# Altium schematic symbol library 开关二极管.SchLib: 1 symbol
Pins are listed as number, name and electrical type; pins without a type are passive.

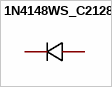
[diagram p0: symbol 1N4148WS_C2128]

## 1N4148WS_C2128
designator D??  (value not drawn)
Manufacturer: CJ(江苏长电/长晶); Symbol: 1N4148WS T4; Add into BOM: yes; Diode Configuration: 独立式; Forward Voltage (Vf@If): 1.25V@150mA; Reverse Voltage (Vr): 100V; Average Rectified Current (Io): 150mA; Power Dissipation: 200mW; Reverse Leakage Current: 1uA@75V; Reverse Recovery Time (trr): 4ns; Name: 1N4148WS; Device: 1N4148WS_C2128; LCSC Part Name: 电压:100V 电流:150mA; Supplier Part: C2128; Manufacturer Part: 1N4148WS; Supplier Footprint: SOD-323; JLCPCB Part Class: Basic Part; Datasheet: https://atta.szlcsc.com/upload/public/pdf/source/20140809/1457707208178.pdf; Supplier: LCSC; Convert to PCB: yes; Operating Temperature: -
footprint SOD-323_L1.8-W1.3-LS2.5-RD
3D model SOD-323_L1.7-W1.3-H1.1-LS2.5
pins: 1 K, 2 A